# EAGLE library part ARDUINO_PRO_MINI (library arduino_pro_mini)
Arduino body - con JP6 and JP7
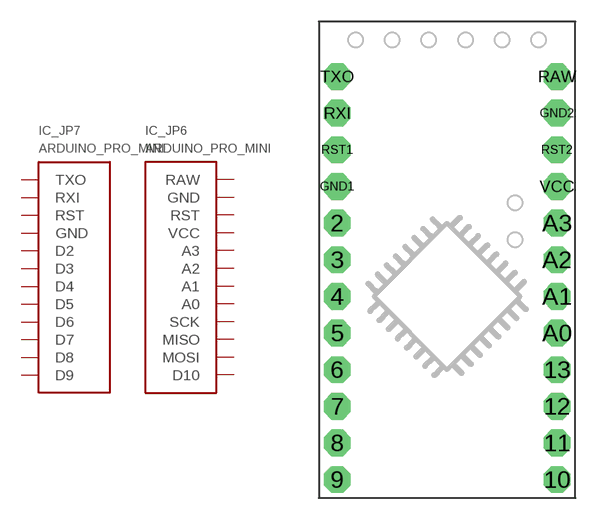
[diagram p0: symbol with the pads of ARDUINO_PRO_MINI; footprint ARDUINO_PRO_MINI]

Designator prefix IC; gates _JP6=JP6 _JP7=JP7

## ARDUINO_PRO_MINI  [ARDUINO_PRO_MINI]
2  _JP7:D2
3  _JP7:D3
4  _JP7:D4
5  _JP7:D5
6  _JP7:D6
7  _JP7:D7
8  _JP7:D8
9  _JP7:D9
10  _JP6:D10
11  _JP6:MOSI
12  _JP6:MISO
13  _JP6:SCK
A0  _JP6:A0
A1  _JP6:A1
A2  _JP6:A2
A3  _JP6:A3
GND1  _JP7:GND
GND2  _JP6:GND
RAW  _JP6:RAW
RST1  _JP7:RST
RST2  _JP6:RST
RXI  _JP7:RXI
TXO  _JP7:TXO
VCC  _JP6:VCC

## Footprint ARDUINO_PRO_MINI (pad centres in mm)
drill 1 pad 1.85 octagon: 2 -7.62,2.54; 3 -7.62,0; 4 -7.62,-2.54; 5 -7.62,-5.08; 6 -7.62,-7.62; 7 -7.62,-10.16; 8 -7.62,-12.7; 9 -7.62,-15.24; 10 7.62,-15.24; 11 7.62,-12.7; 12 7.62,-10.16; 13 7.62,-7.62; A0 7.62,-5.08; A1 7.62,-2.54; A2 7.62,0; A3 7.62,2.54; GND1 -7.62,5.08; GND2 7.62,10.16; RAW 7.62,12.7; RST1 -7.62,7.62; RST2 7.62,7.62; RXI -7.62,10.16; TXO -7.62,12.7; VCC 7.62,5.08